# Altium footprint library Resistor_THT.PcbLib: 104 footprints (part 4 of 7)
Each footprint in its own frame and in the unit in brackets; x right, y up, seen from the top. Pads: shape width x height; smd on the part's side, far side on the other; paste and mask are expansions set on the pad; w line width, h text height; cw(c..) or ccw(c..) is an arc to the next point about the centre after c.
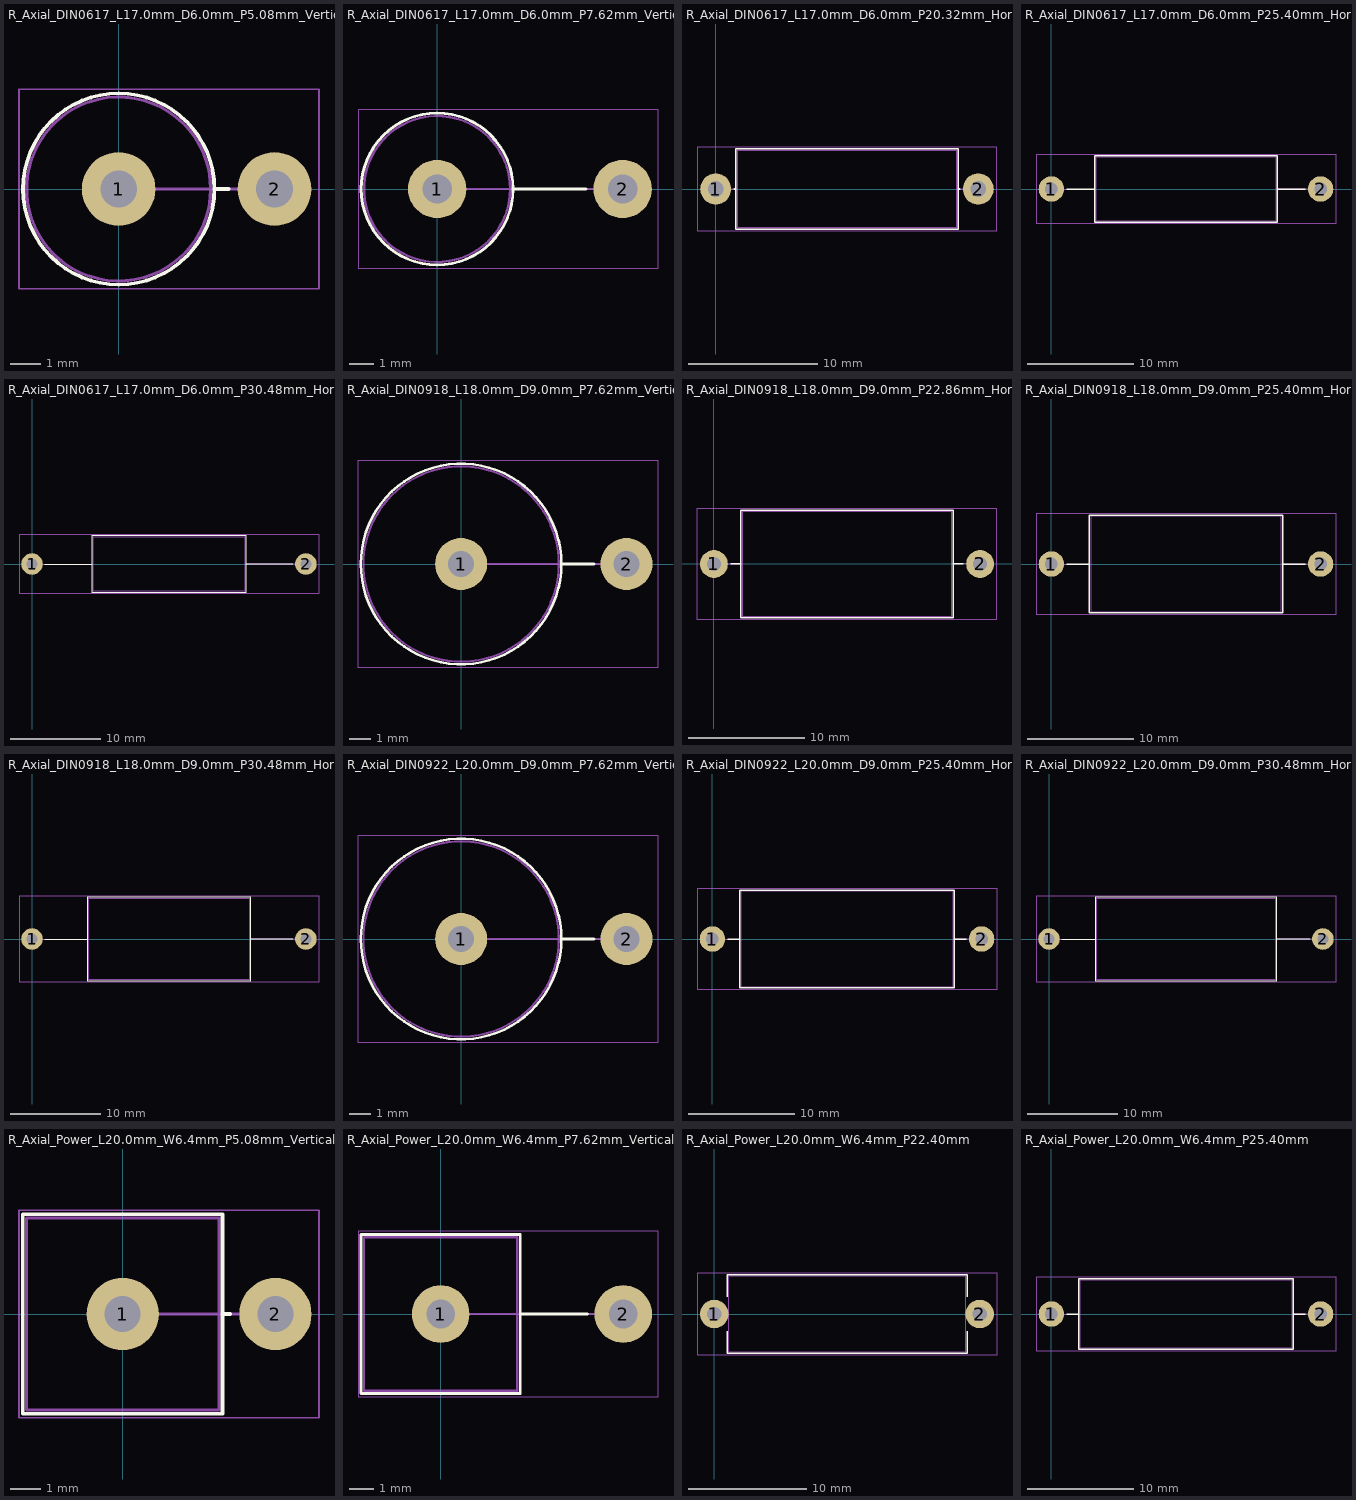
[diagram p3: the footprints below, top view; thin cyan lines are the x and y axes]

## R_Axial_DIN0617_L17.0mm_D6.0mm_P5.08mm_Vertical [mm]
pads (2):
  round 2.4 hole 1.2: 1(0,0)
  rrect100% 2.4x2.4 hole 1.2: 2(5.08,0)
F.SilkS:
  circle w0.12: c0,0 r3.12
  lines w0.12: 3.12,0 3.58,0
F.CrtYd:
  lines w0.05: -3.25,-3.25 6.53,-3.25 6.53,3.25 -3.25,3.25 -3.25,-3.25
F.Fab:
  circle w0.1: c0,0 r3
  lines w0.1: 0,0 5.08,0
  text "'.Designator'" at -4.047,0.86 h1

## R_Axial_DIN0617_L17.0mm_D6.0mm_P7.62mm_Vertical [mm]
pads (2):
  round 2.4 hole 1.2: 1(0,0)
  rrect100% 2.4x2.4 hole 1.2: 2(7.62,0)
F.SilkS:
  circle w0.12: c0,0 r3.12
  lines w0.12: 3.12,0 6.12,0
F.CrtYd:
  lines w0.05: -3.25,-3.25 -3.25,3.25 9.07,3.25 9.07,-3.25 -3.25,-3.25
F.Fab:
  circle w0.1: c0,0 r3
  lines w0.1: 0,0 7.62,0
  text "'.Designator'" at -4.047,0.86 h1

## R_Axial_DIN0617_L17.0mm_D6.0mm_P20.32mm_Horizontal [mm]
pads (2):
  round 2.4 hole 1.2: 1(0,0)
  rrect100% 2.4x2.4 hole 1.2: 2(20.32,0)
F.SilkS:
  lines w0.12: 1.44,0 1.54,0 ; 18.78,0 18.88,0 ; 1.54,-3.12 1.54,3.12 18.78,3.12 18.78,-3.12 1.54,-3.12
F.CrtYd:
  lines w0.05: -1.45,-3.25 21.77,-3.25 21.77,3.25 -1.45,3.25 -1.45,-3.25
F.Fab:
  lines w0.1: 0,0 1.66,0 ; 18.66,0 20.32,0 ; 1.66,-3 1.66,3 18.66,3 18.66,-3 1.66,-3
  text "'.Designator'" at 6.113,-0.84 h1

## R_Axial_DIN0617_L17.0mm_D6.0mm_P25.40mm_Horizontal [mm]
pads (2):
  round 2.4 hole 1.2: 1(0,0)
  rrect100% 2.4x2.4 hole 1.2: 2(25.4,0)
F.SilkS:
  lines w0.12: 1.44,0 4.08,0 ; 21.32,0 23.96,0 ; 4.08,-3.12 4.08,3.12 21.32,3.12 21.32,-3.12 4.08,-3.12
F.CrtYd:
  lines w0.05: -1.45,-3.25 -1.45,3.25 26.85,3.25 26.85,-3.25 -1.45,-3.25
F.Fab:
  lines w0.1: 0,0 4.2,0 ; 21.2,0 25.4,0 ; 4.2,-3 21.2,-3 21.2,3 4.2,3 4.2,-3
  text "'.Designator'" at 8.653,-0.84 h1

## R_Axial_DIN0617_L17.0mm_D6.0mm_P30.48mm_Horizontal [mm]
pads (2):
  round 2.4 hole 1.2: 1(0,0)
  rrect100% 2.4x2.4 hole 1.2: 2(30.48,0)
F.SilkS:
  lines w0.12: 1.44,0 6.62,0 ; 23.86,0 29.04,0 ; 6.62,-3.12 6.62,3.12 23.86,3.12 23.86,-3.12 6.62,-3.12
F.CrtYd:
  lines w0.05: -1.45,-3.25 31.94,-3.25 31.94,3.25 -1.45,3.25 -1.45,-3.25
F.Fab:
  lines w0.1: 0,0 6.74,0 ; 23.74,0 30.48,0 ; 6.74,-3 6.74,3 23.74,3 23.74,-3 6.74,-3
  text "'.Designator'" at 11.193,-0.84 h1

## R_Axial_DIN0918_L18.0mm_D9.0mm_P7.62mm_Vertical [mm]
pads (2):
  round 2.4 hole 1.2: 1(0,0)
  rrect100% 2.4x2.4 hole 1.2: 2(7.62,0)
F.SilkS:
  circle w0.12: c0,0 r4.62
  lines w0.12: 4.62,0 6.12,0
F.CrtYd:
  lines w0.05: -4.75,-4.75 9.07,-4.75 9.07,4.75 -4.75,4.75 -4.75,-4.75
F.Fab:
  circle w0.1: c0,0 r4.5
  lines w0.1: 0,0 7.62,0
  text "'.Designator'" at -4.047,0.86 h1

## R_Axial_DIN0918_L18.0mm_D9.0mm_P22.86mm_Horizontal [mm]
pads (2):
  round 2.4 hole 1.2: 1(0,0)
  rrect100% 2.4x2.4 hole 1.2: 2(22.86,0)
F.SilkS:
  lines w0.12: 1.44,0 2.31,0 ; 20.55,0 21.42,0 ; 2.31,-4.62 2.31,4.62 20.55,4.62 20.55,-4.62 2.31,-4.62
F.CrtYd:
  lines w0.05: -1.45,-4.75 24.31,-4.75 24.31,4.75 -1.45,4.75 -1.45,-4.75
F.Fab:
  lines w0.1: 0,0 2.43,0 ; 20.43,0 22.86,0 ; 2.43,-4.5 2.43,4.5 20.43,4.5 20.43,-4.5 2.43,-4.5
  text "'.Designator'" at 7.383,-0.84 h1

## R_Axial_DIN0918_L18.0mm_D9.0mm_P25.40mm_Horizontal [mm]
pads (2):
  round 2.4 hole 1.2: 1(0,0)
  rrect100% 2.4x2.4 hole 1.2: 2(25.4,0)
F.SilkS:
  lines w0.12: 1.44,0 3.58,0 ; 21.82,0 23.96,0 ; 3.58,-4.62 21.82,-4.62 21.82,4.62 3.58,4.62 3.58,-4.62
F.CrtYd:
  lines w0.05: -1.45,-4.75 26.85,-4.75 26.85,4.75 -1.45,4.75 -1.45,-4.75
F.Fab:
  lines w0.1: 0,0 3.7,0 ; 21.7,0 25.4,0 ; 3.7,-4.5 21.7,-4.5 21.7,4.5 3.7,4.5 3.7,-4.5
  text "'.Designator'" at 8.653,-0.84 h1

## R_Axial_DIN0918_L18.0mm_D9.0mm_P30.48mm_Horizontal [mm]
pads (2):
  round 2.4 hole 1.2: 1(0,0)
  rrect100% 2.4x2.4 hole 1.2: 2(30.48,0)
F.SilkS:
  lines w0.12: 1.44,0 6.12,0 ; 24.36,0 29.04,0 ; 6.12,-4.62 6.12,4.62 24.36,4.62 24.36,-4.62 6.12,-4.62
F.CrtYd:
  lines w0.05: -1.45,-4.75 31.94,-4.75 31.94,4.75 -1.45,4.75 -1.45,-4.75
F.Fab:
  lines w0.1: 0,0 6.24,0 ; 24.24,0 30.48,0 ; 6.24,-4.5 24.24,-4.5 24.24,4.5 6.24,4.5 6.24,-4.5
  text "'.Designator'" at 11.193,-0.84 h1

## R_Axial_DIN0922_L20.0mm_D9.0mm_P7.62mm_Vertical [mm]
pads (2):
  round 2.4 hole 1.2: 1(0,0)
  rrect100% 2.4x2.4 hole 1.2: 2(7.62,0)
F.SilkS:
  circle w0.12: c0,0 r4.62
  lines w0.12: 4.62,0 6.12,0
F.CrtYd:
  lines w0.05: -4.75,-4.75 -4.75,4.75 9.07,4.75 9.07,-4.75 -4.75,-4.75
F.Fab:
  circle w0.1: c0,0 r4.5
  lines w0.1: 0,0 7.62,0
  text "'.Designator'" at -4.047,0.86 h1

## R_Axial_DIN0922_L20.0mm_D9.0mm_P25.40mm_Horizontal [mm]
pads (2):
  round 2.4 hole 1.2: 1(0,0)
  rrect100% 2.4x2.4 hole 1.2: 2(25.4,0)
F.SilkS:
  lines w0.12: 1.44,0 2.58,0 ; 22.82,0 23.96,0 ; 2.58,-4.62 22.82,-4.62 22.82,4.62 2.58,4.62 2.58,-4.62
F.CrtYd:
  lines w0.05: -1.45,-4.75 -1.45,4.75 26.85,4.75 26.85,-4.75 -1.45,-4.75
F.Fab:
  lines w0.1: 0,0 2.7,0 ; 22.7,0 25.4,0 ; 2.7,-4.5 22.7,-4.5 22.7,4.5 2.7,4.5 2.7,-4.5
  text "'.Designator'" at 8.653,-0.84 h1

## R_Axial_DIN0922_L20.0mm_D9.0mm_P30.48mm_Horizontal [mm]
pads (2):
  round 2.4 hole 1.2: 1(0,0)
  rrect100% 2.4x2.4 hole 1.2: 2(30.48,0)
F.SilkS:
  lines w0.12: 1.44,0 5.12,0 ; 25.36,0 29.04,0 ; 5.12,-4.62 25.36,-4.62 25.36,4.62 5.12,4.62 5.12,-4.62
F.CrtYd:
  lines w0.05: -1.45,-4.75 -1.45,4.75 31.94,4.75 31.94,-4.75 -1.45,-4.75
F.Fab:
  lines w0.1: 0,0 5.24,0 ; 25.24,0 30.48,0 ; 5.24,-4.5 25.24,-4.5 25.24,4.5 5.24,4.5 5.24,-4.5
  text "'.Designator'" at 11.193,-0.84 h1

## R_Axial_Power_L20.0mm_W6.4mm_P5.08mm_Vertical [mm]
pads (2):
  round 2.4 hole 1.2: 1(0,0)
  rrect100% 2.4x2.4 hole 1.2: 2(5.08,0)
F.SilkS:
  lines w0.12: 3.32,0 3.58,0 ; -3.32,-3.32 -3.32,3.32 3.32,3.32 3.32,-3.32 -3.32,-3.32
F.CrtYd:
  lines w0.05: -3.45,-3.45 6.53,-3.45 6.53,3.45 -3.45,3.45 -3.45,-3.45
F.Fab:
  lines w0.1: 0,0 5.08,0 ; -3.2,-3.2 -3.2,3.2 3.2,3.2 3.2,-3.2 -3.2,-3.2
  text "'.Designator'" at -4.047,0.86 h1

## R_Axial_Power_L20.0mm_W6.4mm_P7.62mm_Vertical [mm]
pads (2):
  round 2.4 hole 1.2: 1(0,0)
  rrect100% 2.4x2.4 hole 1.2: 2(7.62,0)
F.SilkS:
  lines w0.12: 3.32,0 6.12,0 ; -3.32,-3.32 -3.32,3.32 3.32,3.32 3.32,-3.32 -3.32,-3.32
F.CrtYd:
  lines w0.05: -3.45,-3.45 9.07,-3.45 9.07,3.45 -3.45,3.45 -3.45,-3.45
F.Fab:
  lines w0.1: 0,0 7.62,0 ; -3.2,-3.2 -3.2,3.2 3.2,3.2 3.2,-3.2 -3.2,-3.2
  text "'.Designator'" at -4.047,0.86 h1

## R_Axial_Power_L20.0mm_W6.4mm_P22.40mm [mm]
pads (2):
  round 2.4 hole 1.2: 1(0,0)
  rrect100% 2.4x2.4 hole 1.2: 2(22.4,0)
F.SilkS:
  lines w0.12: 1.08,-1.44 1.08,-3.32 21.32,-3.32 21.32,-1.44 ; 1.08,1.44 1.08,3.32 21.32,3.32 21.32,1.44
F.CrtYd:
  lines w0.05: -1.45,-3.45 -1.45,3.45 23.85,3.45 23.85,-3.45 -1.45,-3.45
F.Fab:
  lines w0.1: 0,0 1.2,0 ; 21.2,0 22.4,0 ; 1.2,-3.2 21.2,-3.2 21.2,3.2 1.2,3.2 1.2,-3.2
  text "'.Designator'" at 7.153,-0.84 h1

## R_Axial_Power_L20.0mm_W6.4mm_P25.40mm [mm]
pads (2):
  round 2.4 hole 1.2: 1(0,0)
  rrect100% 2.4x2.4 hole 1.2: 2(25.4,0)
F.SilkS:
  lines w0.12: 1.44,0 2.58,0 ; 22.82,0 23.96,0 ; 2.58,-3.32 22.82,-3.32 22.82,3.32 2.58,3.32 2.58,-3.32
F.CrtYd:
  lines w0.05: -1.45,-3.45 -1.45,3.45 26.85,3.45 26.85,-3.45 -1.45,-3.45
F.Fab:
  lines w0.1: 0,0 2.7,0 ; 22.7,0 25.4,0 ; 2.7,-3.2 22.7,-3.2 22.7,3.2 2.7,3.2 2.7,-3.2
  text "'.Designator'" at 8.653,-0.84 h1